# Altium integrated library Maxim Sensors.IntLib: 1172 symbols (part 4 of 61)
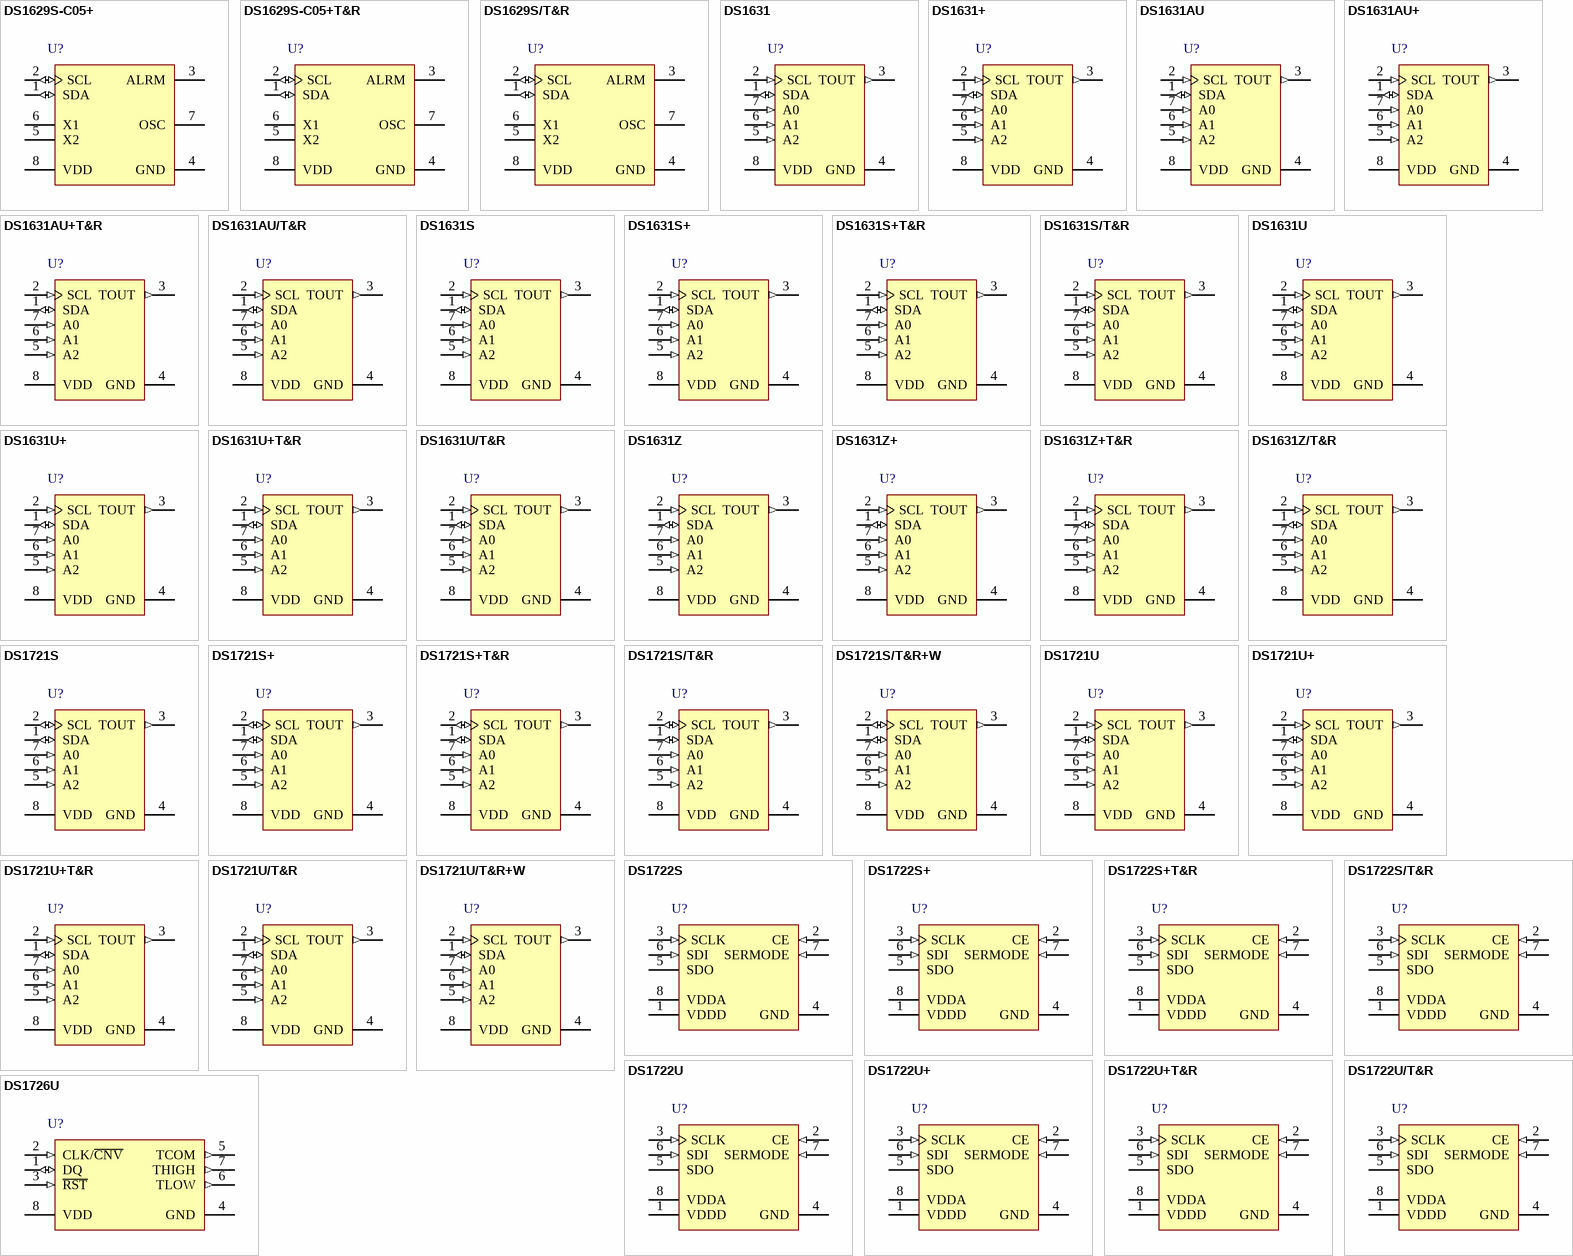
[diagram p36: symbols DS1629S-C05+ to DS1726U]

## DS1629S/T&R
designator U?
Digital Thermometer and Real Time Clock / Calendar, 9 Bits Temperature Resolution, -55 to 125 degC, 8-Pin SOIC (S8-5), Tape and Reel; Generic Part Number: DS1629; PartNumber: DS1629S/T&R; Functions: RTC; Interface: 2-Wire/I2C/SMBus; Parasite Pwr.: No; DatasheetVersion: Rev. 1; PackageVersion: Rev. D, 10/2012; PackageReference: S8-5; PackageDescription: 8-Pin Small-Outline IC, Narrow (0.15in) (S8-5), Body 4.90 x 3.90 mm, Pitch 1.27 mm; Supplier 1: Digi-Key; Supplier Part Number 1: DS1629S/T&R-ND; Supplier 2: Mouser; Supplier Part Number 2: N/A; Packing: Tape and Reel; Mounting Technology: Surface Mount; Code_JEDEC: MS012; ComponentLink1Description: Manufacturer URL; ComponentLink1URL: http://www.maximintegrated.com/; ComponentLink2Description: Datasheet; ComponentLink2URL: http://datasheets.maximintegrated.com/en/ds/DS1629.pdf; ComponentLink3Description: Package Specification; ComponentLink3URL: http://pdfserv.maximintegrated.com/package_dwgs/21-0041.PDF
footprint MAXM-S8-5_N (SOIC, 8-Leads, Body 4.9x3.9mm, Pitch 1.27mm, IPC Medium Density)
footprint MAXM-S8-5_L (SOIC, 8-Leads, Body 4.9x3.9mm, Pitch 1.27mm, IPC High Density)
footprint MAXM-S8-5_M (SOIC, 8-Leads, Body 4.9x3.9mm, Pitch 1.27mm, IPC Low Density)
pins: 1 SDA (io) "Data input/output pin for 2-wire serial communication port.", 2 SCL (io) "Clock input/output pin for 2-wire serial communication port.", 3 ALRM (oc) "Alarm output Open drain time/temperature alarm output with configurable active state", 4 GND (power) "Ground pin.", 5 X2 "32.768 kHz Feedback Output .", 6 X1 "32.768 kHz Crystal input.", 7 OSC (oc) "Oscillator Output. Open-drain output used for microcontroller clock input.", 8 VDD (power) "Supply voltage 2.2V - 5.5V input power pin."

## DS1631
designator U?
High Precision Digital Thermometer and Thermostat, 9 to 12 Bits Temperature Resolution, -55 to 125 degC, 8-Pin DIP (P8-2); Generic Part Number: DS1631; Interface: 2-Wire/I2C/SMBus; Multi Droppable: Yes; Parasite Pwr.: No; DatasheetVersion: Rev. 2; PackageVersion: Rev. E, 04/2011; PackageReference: P8-2; PackageDescription: 8-Pin Plastic Dual-In-Line, Narrow (0.3in) (P8-2), Body 9.375 x 6.985 mm, Pitch 2.54 mm; Supplier 1: Digi-Key; Supplier Part Number 1: DS1631-ND; Supplier 2: Mouser; Supplier Part Number 2: N/A; Mounting Technology: Through Hole; Code_JEDEC: MS001-XX; PartNumber: DS1631; ComponentLink1Description: Manufacturer URL; ComponentLink1URL: http://www.maximintegrated.com/; ComponentLink2Description: Datasheet; ComponentLink2URL: http://datasheets.maximintegrated.com/en/ds/DS1631-DS1731.pdf; ComponentLink3Description: Package Specification; ComponentLink3URL: http://pdfserv.maximintegrated.com/package_dwgs/21-0043.PDF
footprint MAXM-P8-2 (DIP, 8-Leads, Body 9.375x6.985mm, Pitch 2.54mm)
pins: 1 SDA (io) "Data Input/Output Pin for 2-Wire Serial Communication Port. Open-Drain.", 2 SCL (in) "Clock Input Pin for 2-Wire Serial Communication Port.", 3 TOUT (out) "Thermostat Output Pin. Push-Pull.", 4 GND (power) "Ground Pin", 5 A2 (in) "Address Input Pin", 6 A1 (in) "Address Input Pin", 7 A0 (in) "Address Input Pin", 8 VDD (power) "Supply Voltage Pin. +2.7V to +5.5V Power-Supply Pin."

## DS1631+
designator U?
High Precision Digital Thermometer and Thermostat, 9 to 12 Bits Temperature Resolution, -55 to 125 degC, 8-Pin DIP (P8+2), Pb-Free; Generic Part Number: DS1631; PartNumber: DS1631+; Interface: 2-Wire/I2C/SMBus; Multi Droppable: Yes; Parasite Pwr.: No; DatasheetVersion: Rev. 2; PackageVersion: Rev. E, 04/2011; PackageReference: P8+2; PackageDescription: 8-Pin Plastic Dual-In-Line, Narrow (0.3in) (P8+2), Body 9.375 x 6.985 mm, Pitch 2.54 mm; Supplier 1: Digi-Key; Supplier Part Number 1: DS1631+-ND; Supplier 2: Newark; Supplier Part Number 2: 57K0857; Supplier 3: Mouser; Supplier Part Number 3: 700-DS1631; Mounting Technology: Through Hole; Code_JEDEC: MS001-XX; ComponentLink1Description: Manufacturer URL; ComponentLink1URL: http://www.maximintegrated.com/; ComponentLink2Description: Datasheet; ComponentLink2URL: http://datasheets.maximintegrated.com/en/ds/DS1631-DS1731.pdf; ComponentLink3Description: Package Specification; ComponentLink3URL: http://pdfserv.maximintegrated.com/package_dwgs/21-0043.PDF
footprint MAXM-P8+2 (DIP, 8-Leads, Body 9.375x6.985mm, Pitch 2.54mm)
pins: 1 SDA (io) "Data Input/Output Pin for 2-Wire Serial Communication Port. Open-Drain.", 2 SCL (in) "Clock Input Pin for 2-Wire Serial Communication Port.", 3 TOUT (out) "Thermostat Output Pin. Push-Pull.", 4 GND (power) "Ground Pin", 5 A2 (in) "Address Input Pin", 6 A1 (in) "Address Input Pin", 7 A0 (in) "Address Input Pin", 8 VDD (power) "Supply Voltage Pin. +2.7V to +5.5V Power-Supply Pin."

## DS1631AU
designator U?
High Precision Digital Thermometer and Thermostat, 9 to 12 Bits Temperature Resolution, -55 to 125 degC, 8-Pin SOP (U8-1); Generic Part Number: DS1631A; PartNumber: DS1631AU; Interface: 2-Wire/I2C/SMBus; Multi Droppable: Yes; Parasite Pwr.: No; DatasheetVersion: Rev. 2; PackageVersion: Rev. L, 08/2009; PackageReference: U8-1; PackageDescription: 8-Pin Micro-MAX, Thin Shrink Small-Outline (U8-1), Body 3 x 3 mm, Pitch 0.65mm; Supplier 1: Mouser; Supplier Part Number 1: N/A; Mounting Technology: Surface Mount; Code_JEDEC: MO-187; ComponentLink1Description: Manufacturer URL; ComponentLink1URL: http://www.maximintegrated.com/; ComponentLink2Description: Datasheet; ComponentLink2URL: http://datasheets.maximintegrated.com/en/ds/DS1631-DS1731.pdf; ComponentLink3Description: Package Specification; ComponentLink3URL: http://pdfserv.maximintegrated.com/package_dwgs/21-0036.PDF
footprint MAXM-U8-1_N (SOP, 8-Leads, Body 3x3mm, Pitch 0.65mm, IPC Medium Density)
footprint MAXM-U8-1_L (SOP, 8-Leads, Body 3x3mm, Pitch 0.65mm, IPC High Density)
footprint MAXM-U8-1_M (SOP, 8-Leads, Body 3x3mm, Pitch 0.65mm, IPC Low Density)
pins: 1 SDA (io) "Data Input/Output Pin for 2-Wire Serial Communication Port. Open-Drain.", 2 SCL (in) "Clock Input Pin for 2-Wire Serial Communication Port.", 3 TOUT (out) "Thermostat Output Pin. Push-Pull.", 4 GND (power) "Ground Pin", 5 A2 (in) "Address Input Pin", 6 A1 (in) "Address Input Pin", 7 A0 (in) "Address Input Pin", 8 VDD (power) "Supply Voltage Pin. +2.7V to +5.5V Power-Supply Pin."

## DS1631AU+
designator U?
High Precision Digital Thermometer and Thermostat, 9 to 12 Bits Temperature Resolution, -55 to 125 degC, 8-Pin SOP (U8+1), Pb-Free; Generic Part Number: DS1631A; PartNumber: DS1631AU+; Interface: 2-Wire/I2C/SMBus; Multi Droppable: Yes; Parasite Pwr.: No; DatasheetVersion: Rev. 2; PackageVersion: Rev. L, 08/2009; PackageReference: U8+1; PackageDescription: 8-Pin Micro-MAX, Thin Shrink Small-Outline (U8+1), Body 3 x 3 mm, Pitch 0.65 mm; Supplier 1: Digi-Key; Supplier Part Number 1: DS1631AU+-ND; Supplier 2: Newark; Supplier Part Number 2: 95T8620; Supplier 3: Mouser; Supplier Part Number 3: 700-DS1631AU; Mounting Technology: Surface Mount; Code_JEDEC: MO-187; ComponentLink1Description: Manufacturer URL; ComponentLink1URL: http://www.maximintegrated.com/; ComponentLink2Description: Datasheet; ComponentLink2URL: http://datasheets.maximintegrated.com/en/ds/DS1631-DS1731.pdf; ComponentLink3Description: Package Specification; ComponentLink3URL: http://pdfserv.maximintegrated.com/package_dwgs/21-0036.PDF
footprint MAXM-U8+1_N (SOP, 8-Leads, Body 3x3mm, Pitch 0.65mm, IPC Medium Density)
footprint MAXM-U8+1_L (SOP, 8-Leads, Body 3x3mm, Pitch 0.65mm, IPC High Density)
footprint MAXM-U8+1_M (SOP, 8-Leads, Body 3x3mm, Pitch 0.65mm, IPC Low Density)
pins: 1 SDA (io) "Data Input/Output Pin for 2-Wire Serial Communication Port. Open-Drain.", 2 SCL (in) "Clock Input Pin for 2-Wire Serial Communication Port.", 3 TOUT (out) "Thermostat Output Pin. Push-Pull.", 4 GND (power) "Ground Pin", 5 A2 (in) "Address Input Pin", 6 A1 (in) "Address Input Pin", 7 A0 (in) "Address Input Pin", 8 VDD (power) "Supply Voltage Pin. +2.7V to +5.5V Power-Supply Pin."

## DS1631AU+T&R
designator U?
High Precision Digital Thermometer and Thermostat, 9 to 12 Bits Temperature Resolution, -55 to 125 degC, 8-Pin SOP (U8+1), Pb-Free, Tape and Reel; Generic Part Number: DS1631A; PartNumber: DS1631AU+T&R; Interface: 2-Wire/I2C/SMBus; Multi Droppable: Yes; Parasite Pwr.: No; DatasheetVersion: Rev. 2; PackageVersion: Rev. L, 08/2009; PackageReference: U8+1; PackageDescription: 8-Pin Micro-MAX, Thin Shrink Small-Outline (U8+1), Body 3 x 3 mm, Pitch 0.65 mm; Supplier 1: Digi-Key; Supplier Part Number 1: DS1631AU+T&R-ND; Supplier 2: Mouser; Supplier Part Number 2: 700-DS1631AUT&R; Packing: Tape and Reel; Mounting Technology: Surface Mount; Code_JEDEC: MO-187; ComponentLink1Description: Manufacturer URL; ComponentLink1URL: http://www.maximintegrated.com/; ComponentLink2Description: Datasheet; ComponentLink2URL: http://datasheets.maximintegrated.com/en/ds/DS1631-DS1731.pdf; ComponentLink3Description: Package Specification; ComponentLink3URL: http://pdfserv.maximintegrated.com/package_dwgs/21-0036.PDF
footprint MAXM-U8+1_N (SOP, 8-Leads, Body 3x3mm, Pitch 0.65mm, IPC Medium Density)
footprint MAXM-U8+1_L (SOP, 8-Leads, Body 3x3mm, Pitch 0.65mm, IPC High Density)
footprint MAXM-U8+1_M (SOP, 8-Leads, Body 3x3mm, Pitch 0.65mm, IPC Low Density)
pins: 1 SDA (io) "Data Input/Output Pin for 2-Wire Serial Communication Port. Open-Drain.", 2 SCL (in) "Clock Input Pin for 2-Wire Serial Communication Port.", 3 TOUT (out) "Thermostat Output Pin. Push-Pull.", 4 GND (power) "Ground Pin", 5 A2 (in) "Address Input Pin", 6 A1 (in) "Address Input Pin", 7 A0 (in) "Address Input Pin", 8 VDD (power) "Supply Voltage Pin. +2.7V to +5.5V Power-Supply Pin."

## DS1631AU/T&R
designator U?
High Precision Digital Thermometer and Thermostat, 9 to 12 Bits Temperature Resolution, -55 to 125 degC, 8-Pin SOP (U8-1), Tape and Reel; Generic Part Number: DS1631A; PartNumber: DS1631AU/T&R; Interface: 2-Wire/I2C/SMBus; Multi Droppable: Yes; Parasite Pwr.: No; DatasheetVersion: Rev. 2; PackageVersion: Rev. L, 08/2009; PackageReference: U8-1; PackageDescription: 8-Pin Micro-MAX, Thin Shrink Small-Outline (U8-1), Body 3 x 3 mm, Pitch 0.65mm; Supplier 1: Digi-Key; Supplier Part Number 1: DS1631AU/T&R-ND; Supplier 2: Mouser; Supplier Part Number 2: N/A; Packing: Tape and Reel; Mounting Technology: Surface Mount; Code_JEDEC: MO-187; ComponentLink1Description: Manufacturer URL; ComponentLink1URL: http://www.maximintegrated.com/; ComponentLink2Description: Datasheet; ComponentLink2URL: http://datasheets.maximintegrated.com/en/ds/DS1631-DS1731.pdf; ComponentLink3Description: Package Specification; ComponentLink3URL: http://pdfserv.maximintegrated.com/package_dwgs/21-0036.PDF
footprint MAXM-U8-1_N (SOP, 8-Leads, Body 3x3mm, Pitch 0.65mm, IPC Medium Density)
footprint MAXM-U8-1_L (SOP, 8-Leads, Body 3x3mm, Pitch 0.65mm, IPC High Density)
footprint MAXM-U8-1_M (SOP, 8-Leads, Body 3x3mm, Pitch 0.65mm, IPC Low Density)
pins: 1 SDA (io) "Data Input/Output Pin for 2-Wire Serial Communication Port. Open-Drain.", 2 SCL (in) "Clock Input Pin for 2-Wire Serial Communication Port.", 3 TOUT (out) "Thermostat Output Pin. Push-Pull.", 4 GND (power) "Ground Pin", 5 A2 (in) "Address Input Pin", 6 A1 (in) "Address Input Pin", 7 A0 (in) "Address Input Pin", 8 VDD (power) "Supply Voltage Pin. +2.7V to +5.5V Power-Supply Pin."

## DS1631S
designator U?
High Precision Digital Thermometer and Thermostat, 9 to 12 Bits Temperature Resolution, -55 to 125 degC, 8-Pin SOIC (W8-2); Generic Part Number: DS1631; PartNumber: DS1631S; Interface: 2-Wire/I2C/SMBus; Multi Droppable: Yes; Parasite Pwr.: No; DatasheetVersion: Rev. 2; PackageVersion: Rev. B, 01/2010; PackageReference: W8-2; PackageDescription: 8-Pin Small-Outline IC, Body 5.285 x 5.31 mm, Pitch 1.27 mm; Supplier 1: Digi-Key; Supplier Part Number 1: DS1631S-ND; Supplier 2: Mouser; Supplier Part Number 2: N/A; Mounting Technology: Surface Mount; ComponentLink1Description: Manufacturer URL; ComponentLink1URL: http://www.maximintegrated.com/; ComponentLink2Description: Datasheet; ComponentLink2URL: http://datasheets.maximintegrated.com/en/ds/DS1631-DS1731.pdf; ComponentLink3Description: Package Specification; ComponentLink3URL: http://pdfserv.maximintegrated.com/package_dwgs/21-0262.PDF
footprint MAXM-W8-2_N (SOIC, 8-Leads, Body 5.31x5.285mm, Pitch 1.27mm, IPC Medium Density)
footprint MAXM-W8-2_L (SOIC, 8-Leads, Body 5.31x5.285mm, Pitch 1.27mm, IPC High Density)
footprint MAXM-W8-2_M (SOIC, 8-Leads, Body 5.31x5.285mm, Pitch 1.27mm, IPC Low Density)
pins: 1 SDA (io) "Data Input/Output Pin for 2-Wire Serial Communication Port. Open-Drain.", 2 SCL (in) "Clock Input Pin for 2-Wire Serial Communication Port.", 3 TOUT (out) "Thermostat Output Pin. Push-Pull.", 4 GND (power) "Ground Pin", 5 A2 (in) "Address Input Pin", 6 A1 (in) "Address Input Pin", 7 A0 (in) "Address Input Pin", 8 VDD (power) "Supply Voltage Pin. +2.7V to +5.5V Power-Supply Pin."

## DS1631S+
designator U?
High Precision Digital Thermometer and Thermostat, 9 to 12 Bits Temperature Resolution, -55 to 125 degC, 8-Pin SOIC (W8+2), Pb-Free; Generic Part Number: DS1631; PartNumber: DS1631S+; Interface: 2-Wire/I2C/SMBus; Multi Droppable: Yes; Parasite Pwr.: No; DatasheetVersion: Rev. 2; PackageVersion: Rev. B, 01/2010; PackageReference: W8+2; PackageDescription: 8-Pin Small-Outline IC, Body 5.285 x 5.31 mm, Pitch 1.27 mm; Supplier 1: Digi-Key; Supplier Part Number 1: DS1631S+-ND; Supplier 2: Mouser; Supplier Part Number 2: 700-DS1631S; Mounting Technology: Surface Mount; ComponentLink1Description: Manufacturer URL; ComponentLink1URL: http://www.maximintegrated.com/; ComponentLink2Description: Datasheet; ComponentLink2URL: http://datasheets.maximintegrated.com/en/ds/DS1631-DS1731.pdf; ComponentLink3Description: Package Specification; ComponentLink3URL: http://pdfserv.maximintegrated.com/package_dwgs/21-0262.PDF
footprint MAXM-W8+2_N (SOIC, 8-Leads, Body 5.31x5.285mm, Pitch 1.27mm, IPC Medium Density)
footprint MAXM-W8+2_L (SOIC, 8-Leads, Body 5.31x5.285mm, Pitch 1.27mm, IPC High Density)
footprint MAXM-W8+2_M (SOIC, 8-Leads, Body 5.31x5.285mm, Pitch 1.27mm, IPC Low Density)
pins: 1 SDA (io) "Data Input/Output Pin for 2-Wire Serial Communication Port. Open-Drain.", 2 SCL (in) "Clock Input Pin for 2-Wire Serial Communication Port.", 3 TOUT (out) "Thermostat Output Pin. Push-Pull.", 4 GND (power) "Ground Pin", 5 A2 (in) "Address Input Pin", 6 A1 (in) "Address Input Pin", 7 A0 (in) "Address Input Pin", 8 VDD (power) "Supply Voltage Pin. +2.7V to +5.5V Power-Supply Pin."

## DS1631S+T&R
designator U?
High Precision Digital Thermometer and Thermostat, 9 to 12 Bits Temperature Resolution, -55 to 125 degC, 8-Pin SOIC (W8+2), Pb-Free, Tape and Reel; Generic Part Number: DS1631; PartNumber: DS1631S+T&R; Interface: 2-Wire/I2C/SMBus; Multi Droppable: Yes; Parasite Pwr.: No; DatasheetVersion: Rev. 2; PackageVersion: Rev. B, 01/2010; PackageReference: W8+2; PackageDescription: 8-Pin Small-Outline IC, Body 5.285 x 5.31 mm, Pitch 1.27 mm; Supplier 1: Digi-Key; Supplier Part Number 1: DS1631S+T&R-ND; Supplier 2: Mouser; Supplier Part Number 2: 700-DS1631ST&R; Packing: Tape and Reel; Mounting Technology: Surface Mount; ComponentLink1Description: Manufacturer URL; ComponentLink1URL: http://www.maximintegrated.com/; ComponentLink2Description: Datasheet; ComponentLink2URL: http://datasheets.maximintegrated.com/en/ds/DS1631-DS1731.pdf; ComponentLink3Description: Package Specification; ComponentLink3URL: http://pdfserv.maximintegrated.com/package_dwgs/21-0262.PDF
footprint MAXM-W8+2_N (SOIC, 8-Leads, Body 5.31x5.285mm, Pitch 1.27mm, IPC Medium Density)
footprint MAXM-W8+2_L (SOIC, 8-Leads, Body 5.31x5.285mm, Pitch 1.27mm, IPC High Density)
footprint MAXM-W8+2_M (SOIC, 8-Leads, Body 5.31x5.285mm, Pitch 1.27mm, IPC Low Density)
pins: 1 SDA (io) "Data Input/Output Pin for 2-Wire Serial Communication Port. Open-Drain.", 2 SCL (in) "Clock Input Pin for 2-Wire Serial Communication Port.", 3 TOUT (out) "Thermostat Output Pin. Push-Pull.", 4 GND (power) "Ground Pin", 5 A2 (in) "Address Input Pin", 6 A1 (in) "Address Input Pin", 7 A0 (in) "Address Input Pin", 8 VDD (power) "Supply Voltage Pin. +2.7V to +5.5V Power-Supply Pin."

## DS1631S/T&R
designator U?
High Precision Digital Thermometer and Thermostat, 9 to 12 Bits Temperature Resolution, -55 to 125 degC, 8-Pin SOIC (W8-2), Tape and Reel; Generic Part Number: DS1631; PartNumber: DS1631S/T&R; Interface: 2-Wire/I2C/SMBus; Multi Droppable: Yes; Parasite Pwr.: No; DatasheetVersion: Rev. 2; PackageVersion: Rev. B, 01/2010; PackageReference: W8-2; PackageDescription: 8-Pin Small-Outline IC, Body 5.285 x 5.31 mm, Pitch 1.27 mm; Supplier 1: Digi-Key; Supplier Part Number 1: DS1631S/T&R-ND; Supplier 2: Mouser; Supplier Part Number 2: N/A; Packing: Tape and Reel; Mounting Technology: Surface Mount; ComponentLink1Description: Manufacturer URL; ComponentLink1URL: http://www.maximintegrated.com/; ComponentLink2Description: Datasheet; ComponentLink2URL: http://datasheets.maximintegrated.com/en/ds/DS1631-DS1731.pdf; ComponentLink3Description: Package Specification; ComponentLink3URL: http://pdfserv.maximintegrated.com/package_dwgs/21-0262.PDF
footprint MAXM-W8-2_N (SOIC, 8-Leads, Body 5.31x5.285mm, Pitch 1.27mm, IPC Medium Density)
footprint MAXM-W8-2_L (SOIC, 8-Leads, Body 5.31x5.285mm, Pitch 1.27mm, IPC High Density)
footprint MAXM-W8-2_M (SOIC, 8-Leads, Body 5.31x5.285mm, Pitch 1.27mm, IPC Low Density)
pins: 1 SDA (io) "Data Input/Output Pin for 2-Wire Serial Communication Port. Open-Drain.", 2 SCL (in) "Clock Input Pin for 2-Wire Serial Communication Port.", 3 TOUT (out) "Thermostat Output Pin. Push-Pull.", 4 GND (power) "Ground Pin", 5 A2 (in) "Address Input Pin", 6 A1 (in) "Address Input Pin", 7 A0 (in) "Address Input Pin", 8 VDD (power) "Supply Voltage Pin. +2.7V to +5.5V Power-Supply Pin."

## DS1631U
designator U?
High Precision Digital Thermometer and Thermostat, 9 to 12 Bits Temperature Resolution, -55 to 125 degC, 8-Pin SOP (U8-1); Generic Part Number: DS1631; PartNumber: DS1631U; Interface: 2-Wire/I2C/SMBus; Multi Droppable: Yes; Parasite Pwr.: No; DatasheetVersion: Rev. 2; PackageVersion: Rev. L, 08/2009; PackageReference: U8-1; PackageDescription: 8-Pin Micro-MAX, Thin Shrink Small-Outline (U8-1), Body 3 x 3 mm, Pitch 0.65mm; Supplier 1: Digi-Key; Supplier Part Number 1: DS1631U-ND; Supplier 2: Mouser; Supplier Part Number 2: N/A; Mounting Technology: Surface Mount; Code_JEDEC: MO-187; ComponentLink1Description: Manufacturer URL; ComponentLink1URL: http://www.maximintegrated.com/; ComponentLink2Description: Datasheet; ComponentLink2URL: http://datasheets.maximintegrated.com/en/ds/DS1631-DS1731.pdf; ComponentLink3Description: Package Specification; ComponentLink3URL: http://pdfserv.maximintegrated.com/package_dwgs/21-0036.PDF
footprint MAXM-U8-1_N (SOP, 8-Leads, Body 3x3mm, Pitch 0.65mm, IPC Medium Density)
footprint MAXM-U8-1_L (SOP, 8-Leads, Body 3x3mm, Pitch 0.65mm, IPC High Density)
footprint MAXM-U8-1_M (SOP, 8-Leads, Body 3x3mm, Pitch 0.65mm, IPC Low Density)
pins: 1 SDA (io) "Data Input/Output Pin for 2-Wire Serial Communication Port. Open-Drain.", 2 SCL (in) "Clock Input Pin for 2-Wire Serial Communication Port.", 3 TOUT (out) "Thermostat Output Pin. Push-Pull.", 4 GND (power) "Ground Pin", 5 A2 (in) "Address Input Pin", 6 A1 (in) "Address Input Pin", 7 A0 (in) "Address Input Pin", 8 VDD (power) "Supply Voltage Pin. +2.7V to +5.5V Power-Supply Pin."

## DS1631U+
designator U?
High Precision Digital Thermometer and Thermostat, 9 to 12 Bits Temperature Resolution, -55 to 125 degC, 8-Pin SOP (U8+1), Pb-Free; Generic Part Number: DS1631; PartNumber: DS1631U+; Interface: 2-Wire/I2C/SMBus; Multi Droppable: Yes; Parasite Pwr.: No; DatasheetVersion: Rev. 2; PackageVersion: Rev. L, 08/2009; PackageReference: U8+1; PackageDescription: 8-Pin Micro-MAX, Thin Shrink Small-Outline (U8+1), Body 3 x 3 mm, Pitch 0.65 mm; Supplier 1: Digi-Key; Supplier Part Number 1: DS1631U+-ND; Supplier 2: Newark; Supplier Part Number 2: 27K7443; Supplier 3: Newark; Supplier Part Number 3: 26R5782; Supplier 4: Mouser; Supplier Part Number 4: 700-DS1631U; Mounting Technology: Surface Mount; Code_JEDEC: MO-187; ComponentLink1Description: Manufacturer URL; ComponentLink1URL: http://www.maximintegrated.com/; ComponentLink2Description: Datasheet; ComponentLink2URL: http://datasheets.maximintegrated.com/en/ds/DS1631-DS1731.pdf; ComponentLink3Description: Package Specification; ComponentLink3URL: http://pdfserv.maximintegrated.com/package_dwgs/21-0036.PDF
footprint MAXM-U8+1_N (SOP, 8-Leads, Body 3x3mm, Pitch 0.65mm, IPC Medium Density)
footprint MAXM-U8+1_L (SOP, 8-Leads, Body 3x3mm, Pitch 0.65mm, IPC High Density)
footprint MAXM-U8+1_M (SOP, 8-Leads, Body 3x3mm, Pitch 0.65mm, IPC Low Density)
pins: 1 SDA (io) "Data Input/Output Pin for 2-Wire Serial Communication Port. Open-Drain.", 2 SCL (in) "Clock Input Pin for 2-Wire Serial Communication Port.", 3 TOUT (out) "Thermostat Output Pin. Push-Pull.", 4 GND (power) "Ground Pin", 5 A2 (in) "Address Input Pin", 6 A1 (in) "Address Input Pin", 7 A0 (in) "Address Input Pin", 8 VDD (power) "Supply Voltage Pin. +2.7V to +5.5V Power-Supply Pin."

## DS1631U+T&R
designator U?
High Precision Digital Thermometer and Thermostat, 9 to 12 Bits Temperature Resolution, -55 to 125 degC, 8-Pin SOP (U8+1), Pb-Free, Tape and Reel; Generic Part Number: DS1631; PartNumber: DS1631U+T&R; Interface: 2-Wire/I2C/SMBus; Multi Droppable: Yes; Parasite Pwr.: No; DatasheetVersion: Rev. 2; PackageVersion: Rev. L, 08/2009; PackageReference: U8+1; PackageDescription: 8-Pin Micro-MAX, Thin Shrink Small-Outline (U8+1), Body 3 x 3 mm, Pitch 0.65 mm; Supplier 1: Digi-Key; Supplier Part Number 1: DS1631U+T&R-ND; Supplier 2: Mouser; Supplier Part Number 2: 700-DS1631UT&R; Packing: Tape and Reel; Mounting Technology: Surface Mount; Code_JEDEC: MO-187; ComponentLink1Description: Manufacturer URL; ComponentLink1URL: http://www.maximintegrated.com/; ComponentLink2Description: Datasheet; ComponentLink2URL: http://datasheets.maximintegrated.com/en/ds/DS1631-DS1731.pdf; ComponentLink3Description: Package Specification; ComponentLink3URL: http://pdfserv.maximintegrated.com/package_dwgs/21-0036.PDF
footprint MAXM-U8+1_N (SOP, 8-Leads, Body 3x3mm, Pitch 0.65mm, IPC Medium Density)
footprint MAXM-U8+1_L (SOP, 8-Leads, Body 3x3mm, Pitch 0.65mm, IPC High Density)
footprint MAXM-U8+1_M (SOP, 8-Leads, Body 3x3mm, Pitch 0.65mm, IPC Low Density)
pins: 1 SDA (io) "Data Input/Output Pin for 2-Wire Serial Communication Port. Open-Drain.", 2 SCL (in) "Clock Input Pin for 2-Wire Serial Communication Port.", 3 TOUT (out) "Thermostat Output Pin. Push-Pull.", 4 GND (power) "Ground Pin", 5 A2 (in) "Address Input Pin", 6 A1 (in) "Address Input Pin", 7 A0 (in) "Address Input Pin", 8 VDD (power) "Supply Voltage Pin. +2.7V to +5.5V Power-Supply Pin."

## DS1631U/T&R
designator U?
High Precision Digital Thermometer and Thermostat, 9 to 12 Bits Temperature Resolution, -55 to 125 degC, 8-Pin SOP (U8-1), Tape and Reel; Generic Part Number: DS1631; PartNumber: DS1631U/T&R; Interface: 2-Wire/I2C/SMBus; Multi Droppable: Yes; Parasite Pwr.: No; DatasheetVersion: Rev. 2; PackageVersion: Rev. L, 08/2009; PackageReference: U8-1; PackageDescription: 8-Pin Micro-MAX, Thin Shrink Small-Outline (U8-1), Body 3 x 3 mm, Pitch 0.65mm; Supplier 1: Digi-Key; Supplier Part Number 1: DS1631U/T&R-ND; Supplier 2: Mouser; Supplier Part Number 2: N/A; Packing: Tape and Reel; Mounting Technology: Surface Mount; Code_JEDEC: MO-187; ComponentLink1Description: Manufacturer URL; ComponentLink1URL: http://www.maximintegrated.com/; ComponentLink2Description: Datasheet; ComponentLink2URL: http://datasheets.maximintegrated.com/en/ds/DS1631-DS1731.pdf; ComponentLink3Description: Package Specification; ComponentLink3URL: http://pdfserv.maximintegrated.com/package_dwgs/21-0036.PDF
footprint MAXM-U8-1_N (SOP, 8-Leads, Body 3x3mm, Pitch 0.65mm, IPC Medium Density)
footprint MAXM-U8-1_L (SOP, 8-Leads, Body 3x3mm, Pitch 0.65mm, IPC High Density)
footprint MAXM-U8-1_M (SOP, 8-Leads, Body 3x3mm, Pitch 0.65mm, IPC Low Density)
pins: 1 SDA (io) "Data Input/Output Pin for 2-Wire Serial Communication Port. Open-Drain.", 2 SCL (in) "Clock Input Pin for 2-Wire Serial Communication Port.", 3 TOUT (out) "Thermostat Output Pin. Push-Pull.", 4 GND (power) "Ground Pin", 5 A2 (in) "Address Input Pin", 6 A1 (in) "Address Input Pin", 7 A0 (in) "Address Input Pin", 8 VDD (power) "Supply Voltage Pin. +2.7V to +5.5V Power-Supply Pin."

## DS1631Z
designator U?
High Precision Digital Thermometer and Thermostat, 9 to 12 Bits Temperature Resolution, -55 to 125 degC, 8-Pin SOIC (S8-2); Generic Part Number: DS1631; PartNumber: DS1631Z; Interface: 2-Wire/I2C/SMBus; Multi Droppable: Yes; Parasite Pwr.: No; DatasheetVersion: Rev. 2; PackageVersion: Rev. D, 10/2012; PackageReference: S8-2; PackageDescription: 8-Pin Small-Outline IC, Narrow (0.15in) (S8-2), Body 4.90 x 3.90 mm, Pitch 1.27 mm; Supplier 1: Digi-Key; Supplier Part Number 1: DS1631Z-ND; Supplier 2: Mouser; Supplier Part Number 2: N/A; Mounting Technology: Surface Mount; Code_JEDEC: MS012; ComponentLink1Description: Manufacturer URL; ComponentLink1URL: http://www.maximintegrated.com/; ComponentLink2Description: Datasheet; ComponentLink2URL: http://datasheets.maximintegrated.com/en/ds/DS1631-DS1731.pdf; ComponentLink3Description: Package Specification; ComponentLink3URL: http://pdfserv.maximintegrated.com/package_dwgs/21-0041.PDF
footprint MAXM-S8-2_N (SOIC, 8-Leads, Body 4.90x3.90mm, Pitch 1.27mm, IPC Medium Density)
footprint MAXM-S8-2_L (SOIC, 8-Leads, Body 4.90x3.90mm, Pitch 1.27mm, IPC High Density)
footprint MAXM-S8-2_M (SOIC, 8-Leads, Body 4.90x3.90mm, Pitch 1.27mm, IPC Low Density)
pins: 1 SDA (io) "Data Input/Output Pin for 2-Wire Serial Communication Port. Open-Drain.", 2 SCL (in) "Clock Input Pin for 2-Wire Serial Communication Port.", 3 TOUT (out) "Thermostat Output Pin. Push-Pull.", 4 GND (power) "Ground Pin", 5 A2 (in) "Address Input Pin", 6 A1 (in) "Address Input Pin", 7 A0 (in) "Address Input Pin", 8 VDD (power) "Supply Voltage Pin. +2.7V to +5.5V Power-Supply Pin."

## DS1631Z+
designator U?
High Precision Digital Thermometer and Thermostat, 9 to 12 Bits Temperature Resolution, -55 to 125 degC, 8-Pin SOIC (S8+2), Pb-Free; Generic Part Number: DS1631; PartNumber: DS1631Z+; Interface: 2-Wire/I2C/SMBus; Multi Droppable: Yes; Parasite Pwr.: No; DatasheetVersion: Rev. 2; PackageVersion: Rev. D, 10/2012; PackageReference: S8+2; PackageDescription: 8-Pin Small-Outline IC, Narrow (0.15in) (S8+2), Body 4.90 x 3.90 mm, Pitch 1.27 mm; Supplier 1: Digi-Key; Supplier Part Number 1: DS1631Z+-ND; Supplier 2: Newark; Supplier Part Number 2: 03K9116; Supplier 3: Newark; Supplier Part Number 3: 26R5783; Supplier 4: Mouser; Supplier Part Number 4: 700-DS1631Z; Mounting Technology: Surface Mount; Code_JEDEC: MS012; ComponentLink1Description: Manufacturer URL; ComponentLink1URL: http://www.maximintegrated.com/; ComponentLink2Description: Datasheet; ComponentLink2URL: http://datasheets.maximintegrated.com/en/ds/DS1631-DS1731.pdf; ComponentLink3Description: Package Specification; ComponentLink3URL: http://pdfserv.maximintegrated.com/package_dwgs/21-0041.PDF
footprint MAXM-S8+2_N (SOIC, 8-Leads, Body 4.90x3.90mm, Pitch 1.27mm, IPC Medium Density)
footprint MAXM-S8+2_L (SOIC, 8-Leads, Body 4.90x3.90mm, Pitch 1.27mm, IPC High Density)
footprint MAXM-S8+2_M (SOIC, 8-Leads, Body 4.90x3.90mm, Pitch 1.27mm, IPC Low Density)
pins: 1 SDA (io) "Data Input/Output Pin for 2-Wire Serial Communication Port. Open-Drain.", 2 SCL (in) "Clock Input Pin for 2-Wire Serial Communication Port.", 3 TOUT (out) "Thermostat Output Pin. Push-Pull.", 4 GND (power) "Ground Pin", 5 A2 (in) "Address Input Pin", 6 A1 (in) "Address Input Pin", 7 A0 (in) "Address Input Pin", 8 VDD (power) "Supply Voltage Pin. +2.7V to +5.5V Power-Supply Pin."

## DS1631Z+T&R
designator U?
High Precision Digital Thermometer and Thermostat, 9 to 12 Bits Temperature Resolution, -55 to 125 degC, 8-Pin SOIC (S8+2), Pb-Free, Tape and Reel; Generic Part Number: DS1631; PartNumber: DS1631Z+T&R; Interface: 2-Wire/I2C/SMBus; Multi Droppable: Yes; Parasite Pwr.: No; DatasheetVersion: Rev. 2; PackageVersion: Rev. D, 10/2012; PackageReference: S8+2; PackageDescription: 8-Pin Small-Outline IC, Narrow (0.15in) (S8+2), Body 4.90 x 3.90 mm, Pitch 1.27 mm; Supplier 1: Digi-Key; Supplier Part Number 1: DS1631Z+T&R-ND; Supplier 2: Mouser; Supplier Part Number 2: 700-DS1631ZT&R; Packing: Tape and Reel; Mounting Technology: Surface Mount; Code_JEDEC: MS012; ComponentLink1Description: Manufacturer URL; ComponentLink1URL: http://www.maximintegrated.com/; ComponentLink2Description: Datasheet; ComponentLink2URL: http://datasheets.maximintegrated.com/en/ds/DS1631-DS1731.pdf; ComponentLink3Description: Package Specification; ComponentLink3URL: http://pdfserv.maximintegrated.com/package_dwgs/21-0041.PDF
footprint MAXM-S8+2_N (SOIC, 8-Leads, Body 4.90x3.90mm, Pitch 1.27mm, IPC Medium Density)
footprint MAXM-S8+2_L (SOIC, 8-Leads, Body 4.90x3.90mm, Pitch 1.27mm, IPC High Density)
footprint MAXM-S8+2_M (SOIC, 8-Leads, Body 4.90x3.90mm, Pitch 1.27mm, IPC Low Density)
pins: 1 SDA (io) "Data Input/Output Pin for 2-Wire Serial Communication Port. Open-Drain.", 2 SCL (in) "Clock Input Pin for 2-Wire Serial Communication Port.", 3 TOUT (out) "Thermostat Output Pin. Push-Pull.", 4 GND (power) "Ground Pin", 5 A2 (in) "Address Input Pin", 6 A1 (in) "Address Input Pin", 7 A0 (in) "Address Input Pin", 8 VDD (power) "Supply Voltage Pin. +2.7V to +5.5V Power-Supply Pin."

## DS1631Z/T&R
designator U?
High Precision Digital Thermometer and Thermostat, 9 to 12 Bits Temperature Resolution, -55 to 125 degC, 8-Pin SOIC (S8-2), Tape and Reel; Generic Part Number: DS1631; PartNumber: DS1631Z/T&R; Interface: 2-Wire/I2C/SMBus; Multi Droppable: Yes; Parasite Pwr.: No; DatasheetVersion: Rev. 2; PackageVersion: Rev. D, 10/2012; PackageReference: S8-2; PackageDescription: 8-Pin Small-Outline IC, Narrow (0.15in) (S8-2), Body 4.90 x 3.90 mm, Pitch 1.27 mm; Supplier 1: Digi-Key; Supplier Part Number 1: DS1631Z/T&R-ND; Supplier 2: Mouser; Supplier Part Number 2: N/A; Packing: Tape and Reel; Mounting Technology: Surface Mount; Code_JEDEC: MS012; ComponentLink1Description: Manufacturer URL; ComponentLink1URL: http://www.maximintegrated.com/; ComponentLink2Description: Datasheet; ComponentLink2URL: http://datasheets.maximintegrated.com/en/ds/DS1631-DS1731.pdf; ComponentLink3Description: Package Specification; ComponentLink3URL: http://pdfserv.maximintegrated.com/package_dwgs/21-0041.PDF
footprint MAXM-S8-2_N (SOIC, 8-Leads, Body 4.90x3.90mm, Pitch 1.27mm, IPC Medium Density)
footprint MAXM-S8-2_L (SOIC, 8-Leads, Body 4.90x3.90mm, Pitch 1.27mm, IPC High Density)
footprint MAXM-S8-2_M (SOIC, 8-Leads, Body 4.90x3.90mm, Pitch 1.27mm, IPC Low Density)
pins: 1 SDA (io) "Data Input/Output Pin for 2-Wire Serial Communication Port. Open-Drain.", 2 SCL (in) "Clock Input Pin for 2-Wire Serial Communication Port.", 3 TOUT (out) "Thermostat Output Pin. Push-Pull.", 4 GND (power) "Ground Pin", 5 A2 (in) "Address Input Pin", 6 A1 (in) "Address Input Pin", 7 A0 (in) "Address Input Pin", 8 VDD (power) "Supply Voltage Pin. +2.7V to +5.5V Power-Supply Pin."

## DS1721S
designator U?
Econo Digital Thermometer and Thermostat, 9, 10 ,11 ,12 Bits Temperature Resolution, -55 to 125 degC, 8-Pin SOIC (S8-2); Generic Part Number: DS1721; PartNumber: DS1721S; Interface: 2-Wire/I2C/SMBus; Multi Droppable: Yes; Parasite Pwr.: No; DatasheetVersion: Rev. 3; PackageVersion: Rev. D, 10/2012; PackageReference: S8-2; PackageDescription: 8-Pin Small-Outline IC, Narrow (0.15in) (S8-2), Body 4.90 x 3.90 mm, Pitch 1.27 mm; Supplier 1: Digi-Key; Supplier Part Number 1: DS1721S-ND; Supplier 2: Mouser; Supplier Part Number 2: N/A; Mounting Technology: Surface Mount; Code_JEDEC: MS012; ComponentLink1Description: Manufacturer URL; ComponentLink1URL: http://www.maximintegrated.com/; ComponentLink2Description: Datasheet; ComponentLink2URL: http://datasheets.maximintegrated.com/en/ds/DS1721.pdf; ComponentLink3Description: Package Specification; ComponentLink3URL: http://pdfserv.maximintegrated.com/package_dwgs/21-0041.PDF
footprint MAXM-S8-2_N (SOIC, 8-Leads, Body 4.90x3.90mm, Pitch 1.27mm, IPC Medium Density)
footprint MAXM-S8-2_L (SOIC, 8-Leads, Body 4.90x3.90mm, Pitch 1.27mm, IPC High Density)
footprint MAXM-S8-2_M (SOIC, 8-Leads, Body 4.90x3.90mm, Pitch 1.27mm, IPC Low Density)
pins: 1 SDA (io) "Data input/output pin for 2-wire serial communication port.", 2 SCL (io) "Clock input/output pin for 2-wire serial communication port.", 3 TOUT (out) "Thermostat output. Active when temperature exceeds TH; will reset when temperature falls below TL.", 4 GND (power) "Ground pin.", 5 A2 (in) "Address input pin.", 6 A1 (in) "Address input pin.", 7 A0 (in) "Address input pin.", 8 VDD (power) "Supply voltage input power pin. (2.7V to 5.5V)"

## DS1721S+
designator U?
Econo Digital Thermometer and Thermostat, 9, 10 ,11 ,12 Bits Temperature Resolution, -55 to 125 degC, 8-Pin SOIC (S8+2), Pb-Free; Generic Part Number: DS1721; PartNumber: DS1721S+; Interface: 2-Wire/I2C/SMBus; Multi Droppable: Yes; Parasite Pwr.: No; DatasheetVersion: Rev. 3; PackageVersion: Rev. D, 10/2012; PackageReference: S8+2; PackageDescription: 8-Pin Small-Outline IC, Narrow (0.15in) (S8+2), Body 4.90 x 3.90 mm, Pitch 1.27 mm; Supplier 1: Digi-Key; Supplier Part Number 1: DS1721S+-ND; Supplier 2: Newark; Supplier Part Number 2: 88K4092; Supplier 3: Mouser; Supplier Part Number 3: 700-DS1721S; Mounting Technology: Surface Mount; Code_JEDEC: MS012; ComponentLink1Description: Manufacturer URL; ComponentLink1URL: http://www.maximintegrated.com/; ComponentLink2Description: Datasheet; ComponentLink2URL: http://datasheets.maximintegrated.com/en/ds/DS1721.pdf; ComponentLink3Description: Package Specification; ComponentLink3URL: http://pdfserv.maximintegrated.com/package_dwgs/21-0041.PDF
footprint MAXM-S8+2_N (SOIC, 8-Leads, Body 4.90x3.90mm, Pitch 1.27mm, IPC Medium Density)
footprint MAXM-S8+2_L (SOIC, 8-Leads, Body 4.90x3.90mm, Pitch 1.27mm, IPC High Density)
footprint MAXM-S8+2_M (SOIC, 8-Leads, Body 4.90x3.90mm, Pitch 1.27mm, IPC Low Density)
pins: 1 SDA (io) "Data input/output pin for 2-wire serial communication port.", 2 SCL (io) "Clock input/output pin for 2-wire serial communication port.", 3 TOUT (out) "Thermostat output. Active when temperature exceeds TH; will reset when temperature falls below TL.", 4 GND (power) "Ground pin.", 5 A2 (in) "Address input pin.", 6 A1 (in) "Address input pin.", 7 A0 (in) "Address input pin.", 8 VDD (power) "Supply voltage input power pin. (2.7V to 5.5V)"

## DS1721S+T&R
designator U?
Econo Digital Thermometer and Thermostat, 9, 10 ,11 ,12 Bits Temperature Resolution, -55 to 125 degC, 8-Pin SOIC (S8+2), Pb-Free, Tape and Reel; Generic Part Number: DS1721; PartNumber: DS1721S+T&R; Interface: 2-Wire/I2C/SMBus; Multi Droppable: Yes; Parasite Pwr.: No; DatasheetVersion: Rev. 3; PackageVersion: Rev. D, 10/2012; PackageReference: S8+2; PackageDescription: 8-Pin Small-Outline IC, Narrow (0.15in) (S8+2), Body 4.90 x 3.90 mm, Pitch 1.27 mm; Supplier 1: Digi-Key; Supplier Part Number 1: DS1721S+TR-ND; Supplier 2: Digi-Key; Supplier Part Number 2: DS1721S+CT-ND; Supplier 3: Mouser; Supplier Part Number 3: 700-DS1721ST&R; Packing: Tape and Reel; Mounting Technology: Surface Mount; Code_JEDEC: MS012; ComponentLink1Description: Manufacturer URL; ComponentLink1URL: http://www.maximintegrated.com/; ComponentLink2Description: Datasheet; ComponentLink2URL: http://datasheets.maximintegrated.com/en/ds/DS1721.pdf; ComponentLink3Description: Package Specification; ComponentLink3URL: http://pdfserv.maximintegrated.com/package_dwgs/21-0041.PDF
footprint MAXM-S8+2_N (SOIC, 8-Leads, Body 4.90x3.90mm, Pitch 1.27mm, IPC Medium Density)
footprint MAXM-S8+2_L (SOIC, 8-Leads, Body 4.90x3.90mm, Pitch 1.27mm, IPC High Density)
footprint MAXM-S8+2_M (SOIC, 8-Leads, Body 4.90x3.90mm, Pitch 1.27mm, IPC Low Density)
pins: 1 SDA (io) "Data input/output pin for 2-wire serial communication port.", 2 SCL (io) "Clock input/output pin for 2-wire serial communication port.", 3 TOUT (out) "Thermostat output. Active when temperature exceeds TH; will reset when temperature falls below TL.", 4 GND (power) "Ground pin.", 5 A2 (in) "Address input pin.", 6 A1 (in) "Address input pin.", 7 A0 (in) "Address input pin.", 8 VDD (power) "Supply voltage input power pin. (2.7V to 5.5V)"

## DS1721S/T&R
designator U?
Econo Digital Thermometer and Thermostat, 9, 10 ,11 ,12 Bits Temperature Resolution, -55 to 125 degC, 8-Pin SOIC (S8-2), Tape and Reel; Generic Part Number: DS1721; PartNumber: DS1721S/T&R; Interface: 2-Wire/I2C/SMBus; Multi Droppable: Yes; Parasite Pwr.: No; DatasheetVersion: Rev. 3; PackageVersion: Rev. D, 10/2012; PackageReference: S8-2; PackageDescription: 8-Pin Small-Outline IC, Narrow (0.15in) (S8-2), Body 4.90 x 3.90 mm, Pitch 1.27 mm; Supplier 1: Digi-Key; Supplier Part Number 1: DS1721S/T&R-ND; Supplier 2: Mouser; Supplier Part Number 2: N/A; Packing: Tape and Reel; Mounting Technology: Surface Mount; Code_JEDEC: MS012; ComponentLink1Description: Manufacturer URL; ComponentLink1URL: http://www.maximintegrated.com/; ComponentLink2Description: Datasheet; ComponentLink2URL: http://datasheets.maximintegrated.com/en/ds/DS1721.pdf; ComponentLink3Description: Package Specification; ComponentLink3URL: http://pdfserv.maximintegrated.com/package_dwgs/21-0041.PDF
footprint MAXM-S8-2_N (SOIC, 8-Leads, Body 4.90x3.90mm, Pitch 1.27mm, IPC Medium Density)
footprint MAXM-S8-2_L (SOIC, 8-Leads, Body 4.90x3.90mm, Pitch 1.27mm, IPC High Density)
footprint MAXM-S8-2_M (SOIC, 8-Leads, Body 4.90x3.90mm, Pitch 1.27mm, IPC Low Density)
pins: 1 SDA (io) "Data input/output pin for 2-wire serial communication port.", 2 SCL (io) "Clock input/output pin for 2-wire serial communication port.", 3 TOUT (out) "Thermostat output. Active when temperature exceeds TH; will reset when temperature falls below TL.", 4 GND (power) "Ground pin.", 5 A2 (in) "Address input pin.", 6 A1 (in) "Address input pin.", 7 A0 (in) "Address input pin.", 8 VDD (power) "Supply voltage input power pin. (2.7V to 5.5V)"

## DS1721S/T&R+W
designator U?
Econo Digital Thermometer and Thermostat, 9, 10 ,11 ,12 Bits Temperature Resolution, -55 to 125 degC, 8-Pin SOIC (S8+2), Pb-Free, Tape and Reel; Generic Part Number: DS1721; PartNumber: DS1721S/T&R+W; Interface: 2-Wire/I2C/SMBus; Multi Droppable: Yes; Parasite Pwr.: No; DatasheetVersion: Rev. 3; PackageVersion: Rev. D, 10/2012; PackageReference: S8+2; PackageDescription: 8-Pin Small-Outline IC, Narrow (0.15in) (S8+2), Body 4.90 x 3.90 mm, Pitch 1.27 mm; Supplier 1: Mouser; Supplier Part Number 1: N/A; Packing: Tape and Reel; Mounting Technology: Surface Mount; Code_JEDEC: MS012; ComponentLink1Description: Manufacturer URL; ComponentLink1URL: http://www.maximintegrated.com/; ComponentLink2Description: Datasheet; ComponentLink2URL: http://datasheets.maximintegrated.com/en/ds/DS1721.pdf; ComponentLink3Description: Package Specification; ComponentLink3URL: http://pdfserv.maximintegrated.com/package_dwgs/21-0041.PDF
footprint MAXM-S8+2_N (SOIC, 8-Leads, Body 4.90x3.90mm, Pitch 1.27mm, IPC Medium Density)
footprint MAXM-S8+2_L (SOIC, 8-Leads, Body 4.90x3.90mm, Pitch 1.27mm, IPC High Density)
footprint MAXM-S8+2_M (SOIC, 8-Leads, Body 4.90x3.90mm, Pitch 1.27mm, IPC Low Density)
pins: 1 SDA (io) "Data input/output pin for 2-wire serial communication port.", 2 SCL (io) "Clock input/output pin for 2-wire serial communication port.", 3 TOUT (out) "Thermostat output. Active when temperature exceeds TH; will reset when temperature falls below TL.", 4 GND (power) "Ground pin.", 5 A2 (in) "Address input pin.", 6 A1 (in) "Address input pin.", 7 A0 (in) "Address input pin.", 8 VDD (power) "Supply voltage input power pin. (2.7V to 5.5V)"

## DS1721U
designator U?
Econo Digital Thermometer and Thermostat, 9 to 12 Bits Temperature Resolution, -55 to 125 degC, 8-Pin SOP (U8-1); Generic Part Number: DS1721; PartNumber: DS1721U; Interface: 2-Wire/I2C/SMBus; Multi Droppable: Yes; Parasite Pwr.: No; DatasheetVersion: Rev. 3; PackageVersion: Rev. L, 08/2009; PackageReference: U8-1; PackageDescription: 8-Pin Micro-MAX, Thin Shrink Small-Outline (U8-1), Body 3 x 3 mm, Pitch 0.65mm; Supplier 1: Digi-Key; Supplier Part Number 1: DS1721U-ND; Supplier 2: Mouser; Supplier Part Number 2: N/A; Mounting Technology: Surface Mount; Code_JEDEC: MO-187; ComponentLink1Description: Manufacturer URL; ComponentLink1URL: http://www.maximintegrated.com/; ComponentLink2Description: Datasheet; ComponentLink2URL: http://datasheets.maximintegrated.com/en/ds/DS1721.pdf; ComponentLink3Description: Package Specification; ComponentLink3URL: http://pdfserv.maximintegrated.com/package_dwgs/21-0036.PDF
footprint MAXM-U8-1_N (SOP, 8-Leads, Body 3x3mm, Pitch 0.65mm, IPC Medium Density)
footprint MAXM-U8-1_L (SOP, 8-Leads, Body 3x3mm, Pitch 0.65mm, IPC High Density)
footprint MAXM-U8-1_M (SOP, 8-Leads, Body 3x3mm, Pitch 0.65mm, IPC Low Density)
pins: 1 SDA (io) "Data Input/Output Pin for 2-Wire Serial Communication Port. Open-Drain.", 2 SCL (in) "Clock Input Pin for 2-Wire Serial Communication Port.", 3 TOUT (out) "Thermostat Output Pin. Push-Pull.", 4 GND (power) "Ground Pin", 5 A2 (in) "Address Input Pin", 6 A1 (in) "Address Input Pin", 7 A0 (in) "Address Input Pin", 8 VDD (power) "Supply Voltage Pin. +2.7V to +5.5V Power-Supply Pin."

## DS1721U+
designator U?
Econo Digital Thermometer and Thermostat, 9 to 12 Bits Temperature Resolution, -55 to 125 degC, 8-Pin SOP (U8+1), Pb-Free; Generic Part Number: DS1721; PartNumber: DS1721U+; Interface: 2-Wire/I2C/SMBus; Multi Droppable: Yes; Parasite Pwr.: No; DatasheetVersion: Rev. 3; PackageVersion: Rev. L, 08/2009; PackageReference: U8+1; PackageDescription: 8-Pin Micro-MAX, Thin Shrink Small-Outline (U8+1), Body 3 x 3 mm, Pitch 0.65 mm; Supplier 1: Digi-Key; Supplier Part Number 1: DS1721U+-ND; Supplier 2: Farnell; Supplier Part Number 2: 1961606; Supplier 3: Newark; Supplier Part Number 3: 32K5641; Supplier 4: Mouser; Supplier Part Number 4: 700-DS1721U; Mounting Technology: Surface Mount; Code_JEDEC: MO-187; ComponentLink1Description: Manufacturer URL; ComponentLink1URL: http://www.maximintegrated.com/; ComponentLink2Description: Datasheet; ComponentLink2URL: http://datasheets.maximintegrated.com/en/ds/DS1721.pdf; ComponentLink3Description: Package Specification; ComponentLink3URL: http://pdfserv.maximintegrated.com/package_dwgs/21-0036.PDF
footprint MAXM-U8+1_N (SOP, 8-Leads, Body 3x3mm, Pitch 0.65mm, IPC Medium Density)
footprint MAXM-U8+1_L (SOP, 8-Leads, Body 3x3mm, Pitch 0.65mm, IPC High Density)
footprint MAXM-U8+1_M (SOP, 8-Leads, Body 3x3mm, Pitch 0.65mm, IPC Low Density)
pins: 1 SDA (io) "Data Input/Output Pin for 2-Wire Serial Communication Port. Open-Drain.", 2 SCL (in) "Clock Input Pin for 2-Wire Serial Communication Port.", 3 TOUT (out) "Thermostat Output Pin. Push-Pull.", 4 GND (power) "Ground Pin", 5 A2 (in) "Address Input Pin", 6 A1 (in) "Address Input Pin", 7 A0 (in) "Address Input Pin", 8 VDD (power) "Supply Voltage Pin. +2.7V to +5.5V Power-Supply Pin."

## DS1721U+T&R
designator U?
Econo Digital Thermometer and Thermostat, 9 to 12 Bits Temperature Resolution, -55 to 125 degC, 8-Pin SOP (U8+1), Pb-Free, Tape and Reel; Generic Part Number: DS1721; PartNumber: DS1721U+T&R; Interface: 2-Wire/I2C/SMBus; Multi Droppable: Yes; Parasite Pwr.: No; DatasheetVersion: Rev. 3; PackageVersion: Rev. L, 08/2009; PackageReference: U8+1; PackageDescription: 8-Pin Micro-MAX, Thin Shrink Small-Outline (U8+1), Body 3 x 3 mm, Pitch 0.65 mm; Supplier 1: Digi-Key; Supplier Part Number 1: DS1721U+T&R-ND; Supplier 2: Mouser; Supplier Part Number 2: 700-DS1721UT&R; Packing: Tape and Reel; Mounting Technology: Surface Mount; Code_JEDEC: MO-187; ComponentLink1Description: Manufacturer URL; ComponentLink1URL: http://www.maximintegrated.com/; ComponentLink2Description: Datasheet; ComponentLink2URL: http://datasheets.maximintegrated.com/en/ds/DS1721.pdf; ComponentLink3Description: Package Specification; ComponentLink3URL: http://pdfserv.maximintegrated.com/package_dwgs/21-0036.PDF
footprint MAXM-U8+1_N (SOP, 8-Leads, Body 3x3mm, Pitch 0.65mm, IPC Medium Density)
footprint MAXM-U8+1_L (SOP, 8-Leads, Body 3x3mm, Pitch 0.65mm, IPC High Density)
footprint MAXM-U8+1_M (SOP, 8-Leads, Body 3x3mm, Pitch 0.65mm, IPC Low Density)
pins: 1 SDA (io) "Data Input/Output Pin for 2-Wire Serial Communication Port. Open-Drain.", 2 SCL (in) "Clock Input Pin for 2-Wire Serial Communication Port.", 3 TOUT (out) "Thermostat Output Pin. Push-Pull.", 4 GND (power) "Ground Pin", 5 A2 (in) "Address Input Pin", 6 A1 (in) "Address Input Pin", 7 A0 (in) "Address Input Pin", 8 VDD (power) "Supply Voltage Pin. +2.7V to +5.5V Power-Supply Pin."

## DS1721U/T&R
designator U?
Econo Digital Thermometer and Thermostat, 9 to 12 Bits Temperature Resolution, -55 to 125 degC, 8-Pin SOP (U8-1), Tape and Reel; Generic Part Number: DS1721; PartNumber: DS1721U/T&R; Interface: 2-Wire/I2C/SMBus; Multi Droppable: Yes; Parasite Pwr.: No; DatasheetVersion: Rev. 3; PackageVersion: Rev. L, 08/2009; PackageReference: U8-1; PackageDescription: 8-Pin Micro-MAX, Thin Shrink Small-Outline (U8-1), Body 3 x 3 mm, Pitch 0.65mm; Supplier 1: Digi-Key; Supplier Part Number 1: DS1721U/T&R-ND; Supplier 2: Mouser; Supplier Part Number 2: N/A; Packing: Tape and Reel; Mounting Technology: Surface Mount; Code_JEDEC: MO-187; ComponentLink1Description: Manufacturer URL; ComponentLink1URL: http://www.maximintegrated.com/; ComponentLink2Description: Datasheet; ComponentLink2URL: http://datasheets.maximintegrated.com/en/ds/DS1721.pdf; ComponentLink3Description: Package Specification; ComponentLink3URL: http://pdfserv.maximintegrated.com/package_dwgs/21-0036.PDF
footprint MAXM-U8-1_N (SOP, 8-Leads, Body 3x3mm, Pitch 0.65mm, IPC Medium Density)
footprint MAXM-U8-1_L (SOP, 8-Leads, Body 3x3mm, Pitch 0.65mm, IPC High Density)
footprint MAXM-U8-1_M (SOP, 8-Leads, Body 3x3mm, Pitch 0.65mm, IPC Low Density)
pins: 1 SDA (io) "Data Input/Output Pin for 2-Wire Serial Communication Port. Open-Drain.", 2 SCL (in) "Clock Input Pin for 2-Wire Serial Communication Port.", 3 TOUT (out) "Thermostat Output Pin. Push-Pull.", 4 GND (power) "Ground Pin", 5 A2 (in) "Address Input Pin", 6 A1 (in) "Address Input Pin", 7 A0 (in) "Address Input Pin", 8 VDD (power) "Supply Voltage Pin. +2.7V to +5.5V Power-Supply Pin."

## DS1721U/T&R+W
designator U?
Econo Digital Thermometer and Thermostat, 9 to 12 Bits Temperature Resolution, -55 to 125 degC, 8-Pin SOP (U8+1), Pb-Free, Tape and Reel; Generic Part Number: DS1721; PartNumber: DS1721U/T&R+W; Interface: 2-Wire/I2C/SMBus; Multi Droppable: Yes; Parasite Pwr.: No; DatasheetVersion: Rev. 3; PackageVersion: Rev. L, 08/2009; PackageReference: U8+1; PackageDescription: 8-Pin Micro-MAX, Thin Shrink Small-Outline (U8+1), Body 3 x 3 mm, Pitch 0.65 mm; Supplier 1: Mouser; Supplier Part Number 1: N/A; Packing: Tape and Reel; Mounting Technology: Surface Mount; Code_JEDEC: MO-187; ComponentLink1Description: Manufacturer URL; ComponentLink1URL: http://www.maximintegrated.com/; ComponentLink2Description: Datasheet; ComponentLink2URL: http://datasheets.maximintegrated.com/en/ds/DS1721.pdf; ComponentLink3Description: Package Specification; ComponentLink3URL: http://pdfserv.maximintegrated.com/package_dwgs/21-0036.PDF
footprint MAXM-U8+1_N (SOP, 8-Leads, Body 3x3mm, Pitch 0.65mm, IPC Medium Density)
footprint MAXM-U8+1_L (SOP, 8-Leads, Body 3x3mm, Pitch 0.65mm, IPC High Density)
footprint MAXM-U8+1_M (SOP, 8-Leads, Body 3x3mm, Pitch 0.65mm, IPC Low Density)
pins: 1 SDA (io) "Data Input/Output Pin for 2-Wire Serial Communication Port. Open-Drain.", 2 SCL (in) "Clock Input Pin for 2-Wire Serial Communication Port.", 3 TOUT (out) "Thermostat Output Pin. Push-Pull.", 4 GND (power) "Ground Pin", 5 A2 (in) "Address Input Pin", 6 A1 (in) "Address Input Pin", 7 A0 (in) "Address Input Pin", 8 VDD (power) "Supply Voltage Pin. +2.7V to +5.5V Power-Supply Pin."